# EAGLE library part ESC (library ganges)
ESC for Schematic
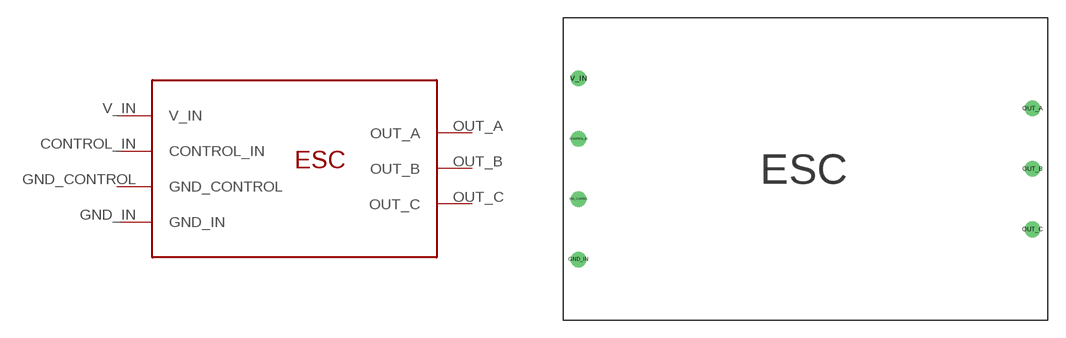
[diagram p1: symbol with the pads of ESC; footprint ESC]

Designator prefix -

## ESC  [ESC]
CONTROL_IN  CONTROL_IN
GND_CONTROL  GND_CONTROL
GND_IN  GND_IN
OUT_A  OUT_A
OUT_B  OUT_B
OUT_C  OUT_C
V_IN  V_IN

## Footprint ESC (pad centres in mm)
ESC - Package
drill 0.8 pad 1.27: CONTROL_IN 1.27,15.24; GND_CONTROL 1.27,10.16; GND_IN 1.27,5.08; OUT_A 39.37,17.78; OUT_B 39.37,12.7; OUT_C 39.37,7.62; V_IN 1.27,20.32